# Altium footprint library pira-smart-pcblib.PcbLib: 19 footprints (part 2 of 2)
Each footprint in its own frame and in the unit in brackets; x right, y up, seen from the top. Pads: shape width x height; smd on the part's side, far side on the other; paste and mask are expansions set on the pad; w line width, h text height; cw(c..) or ccw(c..) is an arc to the next point about the centre after c.
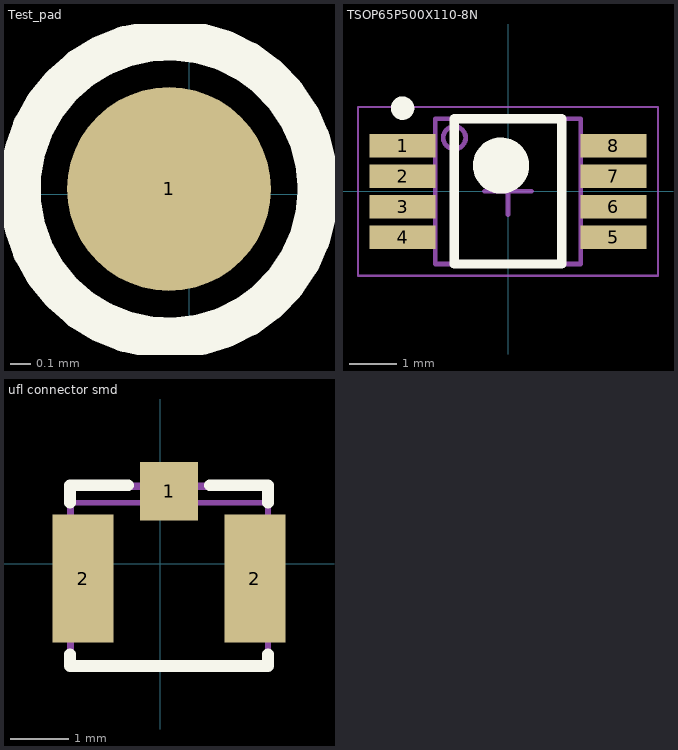
[diagram p1: the footprints below, top view; thin cyan lines are the x and y axes]

## Test_pad [mm]
pads (1):
  round 1 smd: 1(-0.1,0.025)
Top Overlay:
  circle w0.2: c-0.1,0.025 r0.731
Mechanical 29:
  circle w0.1: c-0.1,0.025 r0.736
  text "'.Designator'" at -0.87,-0.065 h1

## TSOP65P500X110-8N [mm] "TSOP, 8-Leads, Body 3.00x3.00mm, Pitch 0.65mm, IPC Medium Density"
height 1.1
pads (8):
  rect 1.4x0.5 smd: 1(-2.25,0.975) 2(-2.25,0.325) 3(-2.25,-0.325) 4(-2.25,-0.975) 5(2.25,-0.975) 6(2.25,-0.325) 7(2.25,0.325) 8(2.25,0.975)
Top Overlay:
  circle w0.25: c-2.25,1.775 r0.125
  circle w0.6: c-0.15,0.55 r0.3
  lines w0.2: -1.15,-1.55 -1.15,1.55 1.15,1.55 1.15,-1.55 -1.15,-1.55
Mechanical 15:
  lines w0.05: -3.2,-1.8 -3.2,1.8 3.2,1.8 3.2,-1.8 -3.2,-1.8
  lines w0.1: -0.5,0 0.5,0 ; 0,-0.5 0,0.5
Mechanical 29:
  circle w0.1: c-1.143,1.143 r0.239
  lines w0.1: -1.55,-1.55 -1.55,1.55 1.55,1.55 1.55,-1.55 -1.55,-1.55
  text "'.Designator'" at -0.889,-0.381 h0.8
3D body: height 1.1, standoff 0.1, extent -1.55,-1.55 1.55,1.55

## ufl connector smd [mm]
pads (3):
  rect 1x1 smd: 1(0.15,1.248)
  rect 1.05x2.2 smd: 2(-1.325,-0.252) 2(1.625,-0.252)
Top Overlay:
  lines w0.2: -1.55,-1.552 -1.55,-1.752 1.85,-1.752 1.85,-1.552 ; -1.55,1.048 -1.55,1.348 -0.55,1.348 ; 0.85,1.348 1.85,1.348 1.85,1.048
Mechanical 16:
  lines w0.1: -1.55,1.048 1.85,1.048 ; -1.55,-1.752 -1.55,1.348 1.85,1.348 1.85,-1.752 -1.55,-1.752
Mechanical 29:
  lines w0.1: -1.54,-1.725 1.85,-1.725 1.85,1.295 1.83,1.315 -1.53,1.315 -1.53,-1.715 -1.54,-1.725
  text "'.Designator'" at -0.95,-0.425 h1
3D body "SW3dPS-UFL-R-SMD.STEP": height 1.25, standoff 0, extent -1.55,-1.675 1.85,1.425